# Altium schematic symbol library memory.SchLib: 8 symbols
Pins are listed as number, name and electrical type; pins without a type are passive.

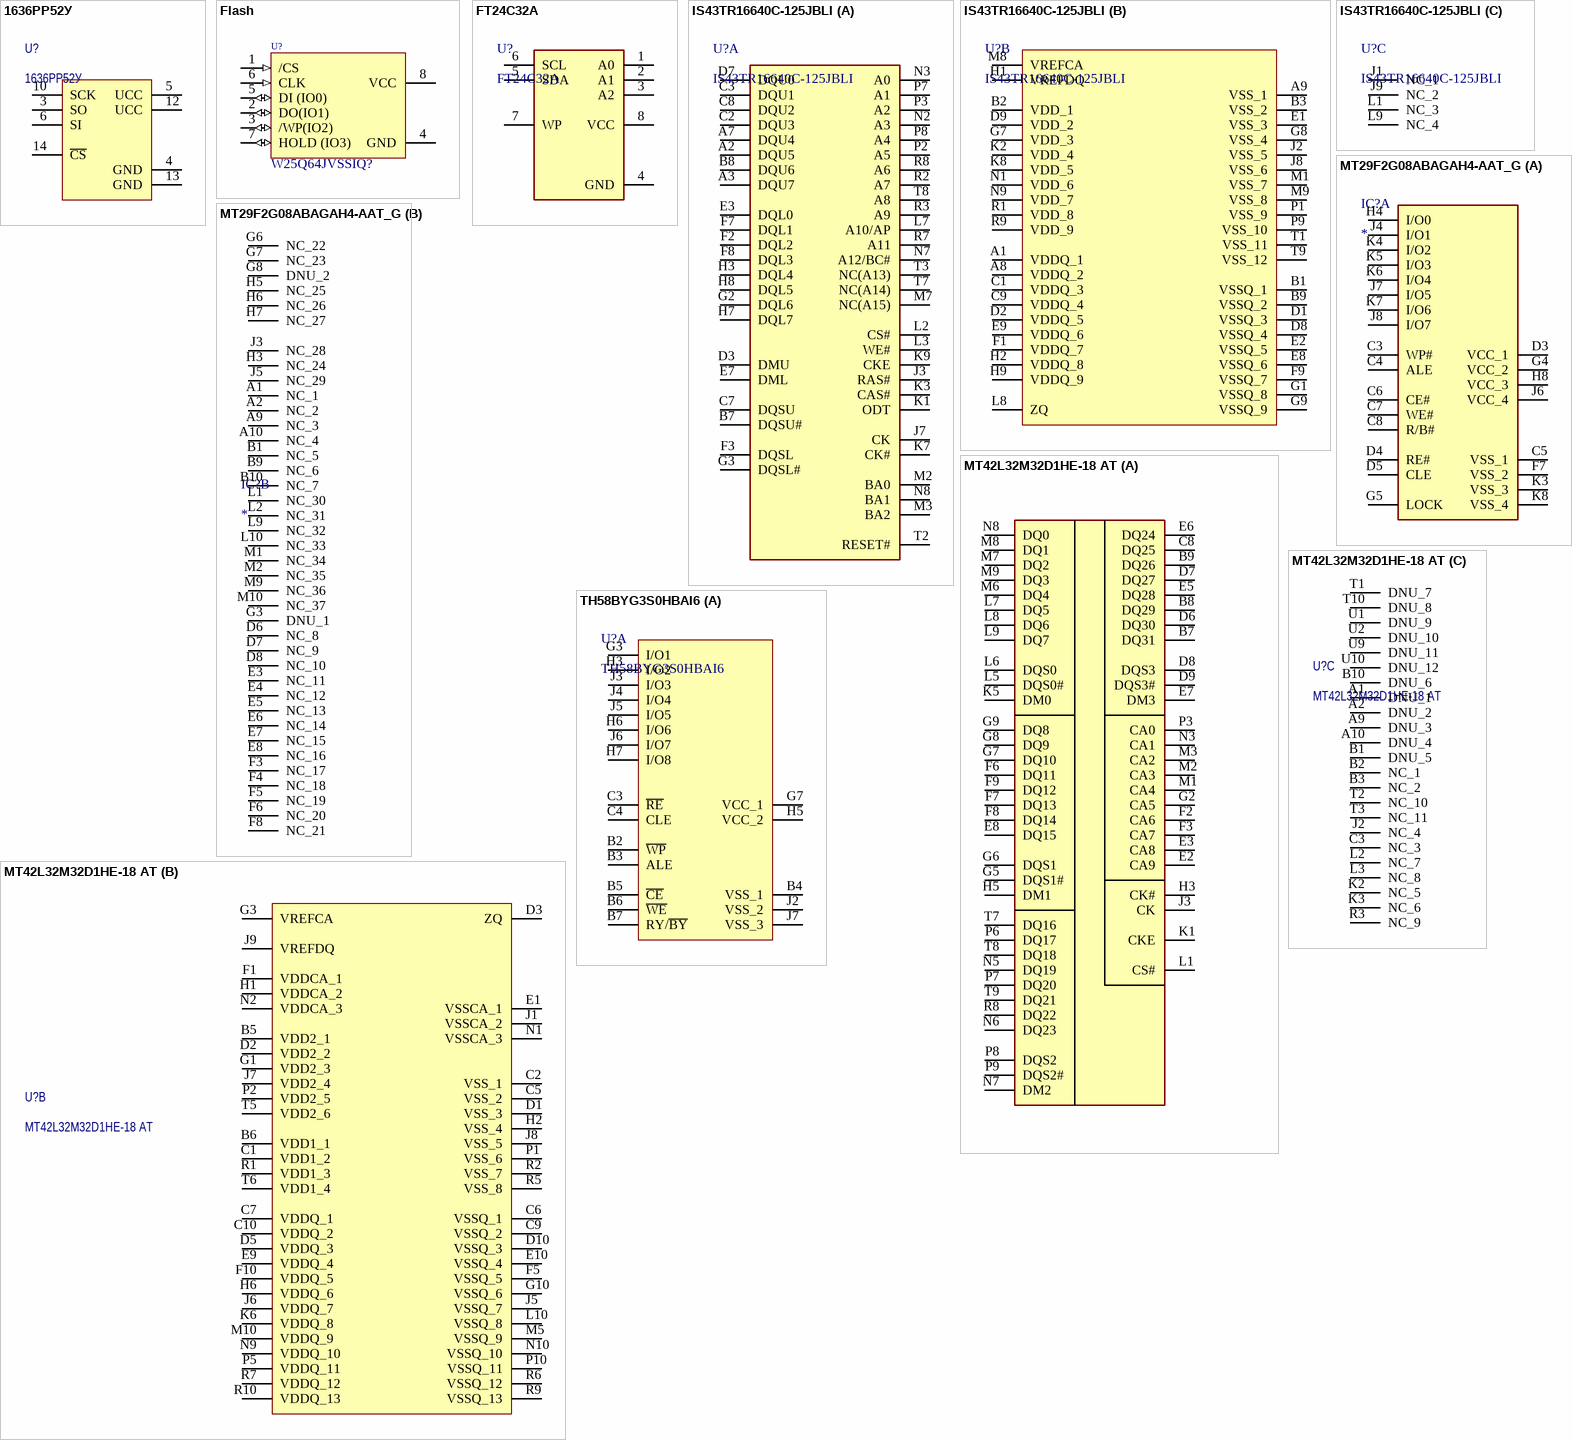
[diagram p0: symbols 1636РР52У to TH58BYG3S0HBAI6]

## 1636РР52У
designator U?
ROM
footprint 5119.16-A
pins: 3 SO, 4 GND, 5 UCC, 6 SI, 10 SCK, 12 UCC, 13 GND, 14 ~{CS}

## Flash
designator U?, comment W25Q64JVSSIQ?
footprint SO-8 (Small Outline; 8 Leads; Body Width 3.9 mm; Pitch 1.27 mm)
pins: 1 /CS (in), 2 DO(IO1) (io), 3 /WP(IO2) (io), 4 GND (power), 5 DI (IO0) (io), 6 CLK (in), 7 HOLD (IO3) (io), 8 VCC (power)

## FT24C32A
designator U?
EEPROM I2C
footprint TSSOP-8 (TSOP, 8-Leads, Body 3,1x4,5mm (max), Pitch 0,65mm, IPC Medium Density)
pins: 1 A0, 2 A1, 3 A2, 4 GND, 5 SDA, 6 SCL, 7 WP, 8 VCC

## IS43TR16640C-125JBLI
designator U?
DDR3 1G; Manufacturer_Name: Integrated Silicon Solution Inc.; Datasheet Link: https://componentsearchengine.com//IS43TR16640C-125JBLI.pdf; Height: 1.2mm; Mouser2 Part Number: 870-16640C-125JBLI; Mouser2 Price/Stock: https://www.mouser.com/Search/Refine.aspx?Keyword=870-16640C-125JBLI; Manufacturer_Part_Number: IS43TR16640C-125JBLI
footprint BGA96
part A pins: A2 DQU5, A3 DQU7, A7 DQU4, B7 DQSU#, B8 DQU6, C2 DQU3, C3 DQU1, C7 DQSU, C8 DQU2, D3 DMU, D7 DQU0, E3 DQL0, E7 DML, F2 DQL2, F3 DQSL, F7 DQL1, F8 DQL3, G2 DQL6, G3 DQSL#, H3 DQL4, H7 DQL7, H8 DQL5, J3 RAS#, J7 CK, K1 ODT, K3 CAS#, K7 CK#, K9 CKE, L2 CS#, L3 WE#, L7 A10/AP, M2 BA0, M3 BA2, M7 NC(A15), N2 A3, N3 A0, N7 A12/BC#, N8 BA1, P2 A5, P3 A2, P7 A1, P8 A4, R2 A7, R3 A9, R7 A11, R8 A6, T2 RESET#, T3 NC(A13), T7 NC(A14), T8 A8
part B pins: A1 VDDQ_1, A8 VDDQ_2, A9 VSS_1, B1 VSSQ_1, B2 VDD_1, B3 VSS_2, B9 VSSQ_2, C1 VDDQ_3, C9 VDDQ_4, D1 VSSQ_3, D2 VDDQ_5, D8 VSSQ_4, D9 VDD_2, E1 VSS_3, E2 VSSQ_5, E8 VSSQ_6, E9 VDDQ_6, F1 VDDQ_7, F9 VSSQ_7, G1 VSSQ_8, G7 VDD_3, G8 VSS_4, G9 VSSQ_9, H1 VREFDQ, H2 VDDQ_8, H9 VDDQ_9, J2 VSS_5, J8 VSS_6, K2 VDD_4, K8 VDD_5, L8 ZQ, M1 VSS_7, M8 VREFCA, M9 VSS_8, N1 VDD_6, N9 VDD_7, P1 VSS_9, P9 VSS_10, R1 VDD_8, R9 VDD_9, T1 VSS_11, T9 VSS_12
part C pins: J1 NC_1, J9 NC_2, L1 NC_3, L9 NC_4

## MT29F2G08ABAGAH4-AAT_G
designator IC?
Integrated Circuit; Manufacturer_Name: Micron; Manufacturer_Part_Number: MT29F2G08ABAGAH4-AAT:G; Datasheet Link: https://l.facebook.com/l.php?u=https%3A%2F%2Fcdn.fbsbx.com%2Fv%2Ft59.2708-21%2F97542784_573378673289097_3029815916536791040_n.pdf%2Fm79a_2gb_parallel_nand_auto.pdf%3F_nc_cat%3D100%26_nc_sid%3D0cab14%26_nc_eui2%3DAeFpWMN8JHKyS4KgTjB_Y6sTT3t34wKDd4pPe3fjAoN; Height: 1mm
footprint BGA63
part A pins: C3 WP#, C4 ALE, C5 VSS_1, C6 CE#, C7 WE#, C8 R/B#, D3 VCC_1, D4 RE#, D5 CLE, F7 VSS_2, G4 VCC_2, G5 LOCK, H4 I/O0, H8 VCC_3, J4 I/O1, J6 VCC_4, J7 I/O5, J8 I/O7, K3 VSS_3, K4 I/O2, K5 I/O3, K6 I/O4, K7 I/O6, K8 VSS_4
part B pins: A1 NC_1, A2 NC_2, A9 NC_3, A10 NC_4, B1 NC_5, B9 NC_6, B10 NC_7, D6 NC_8, D7 NC_9, D8 NC_10, E3 NC_11, E4 NC_12, E5 NC_13, E6 NC_14, E7 NC_15, E8 NC_16, F3 NC_17, F4 NC_18, F5 NC_19, F6 NC_20, F8 NC_21, G3 DNU_1, G6 NC_22, G7 NC_23, G8 DNU_2, H3 NC_24, H5 NC_25, H6 NC_26, H7 NC_27, J3 NC_28, J5 NC_29, L1 NC_30, L2 NC_31, L9 NC_32, L10 NC_33, M1 NC_34, M2 NC_35, M9 NC_36, M10 NC_37

## MT42L32M32D1HE-18 AT
designator U?
SDRAM
footprint BGA134
part A pins: B7 DQ31, B8 DQ29, B9 DQ26, C8 DQ25, D6 DQ30, D7 DQ27, D8 DQS3, D9 DQS3#, E2 CA9, E3 CA8, E5 DQ28, E6 DQ24, E7 DM3, E8 DQ15, F2 CA6, F3 CA7, F6 DQ11, F7 DQ13, F8 DQ14, F9 DQ12, G2 CA5, G5 DQS1#, G6 DQS1, G7 DQ10, G8 DQ9, G9 DQ8, H3 CK#, H5 DM1, J3 CK, K1 CKE, K5 DM0, L1 CS#, L5 DQS0#, L6 DQS0, L7 DQ5, L8 DQ6, L9 DQ7, M1 CA4, M2 CA3, M3 CA2, M6 DQ4, M7 DQ2, M8 DQ1, M9 DQ3, N3 CA1, N5 DQ19, N6 DQ23, N7 DM2, N8 DQ0, P3 CA0, P6 DQ17, P7 DQ20, P8 DQS2, P9 DQS2#, R8 DQ22, T7 DQ16, T8 DQ18, T9 DQ21
part B pins: B5 VDD2_1, B6 VDD1_1, C1 VDD1_2, C2 VSS_1, C5 VSS_2, C6 VSSQ_1, C7 VDDQ_1, C9 VSSQ_2, C10 VDDQ_2, D1 VSS_3, D2 VDD2_2, D3 ZQ, D5 VDDQ_3, D10 VSSQ_3, E1 VSSCA_1, E9 VDDQ_4, E10 VSSQ_4, F1 VDDCA_1, F5 VSSQ_5, F10 VDDQ_5, G1 VDD2_3, G3 VREFCA, G10 VSSQ_6, H1 VDDCA_2, H2 VSS_4, H6 VDDQ_6, J1 VSSCA_2, J5 VSSQ_7, J6 VDDQ_7, J7 VDD2_4, J8 VSS_5, J9 VREFDQ, K6 VDDQ_8, L10 VSSQ_8, M5 VSSQ_9, M10 VDDQ_9, N1 VSSCA_3, N2 VDDCA_3, N9 VDDQ_10, N10 VSSQ_10, P1 VSS_6, P2 VDD2_5, P5 VDDQ_11, P10 VSSQ_11, R1 VDD1_3, R2 VSS_7, R5 VSS_8, R6 VSSQ_12, R7 VDDQ_12, R9 VSSQ_13, R10 VDDQ_13, T5 VDD2_6, T6 VDD1_4
part C pins: A1 DNU_1, A2 DNU_2, A9 DNU_3, A10 DNU_4, B1 DNU_5, B2 NC_1, B3 NC_2, B10 DNU_6, C3 NC_3, J2 NC_4, K2 NC_5, K3 NC_6, L2 NC_7, L3 NC_8, R3 NC_9, T1 DNU_7, T2 NC_10, T3 NC_11, T10 DNU_8, U1 DNU_9, U2 DNU_10, U9 DNU_11, U10 DNU_12

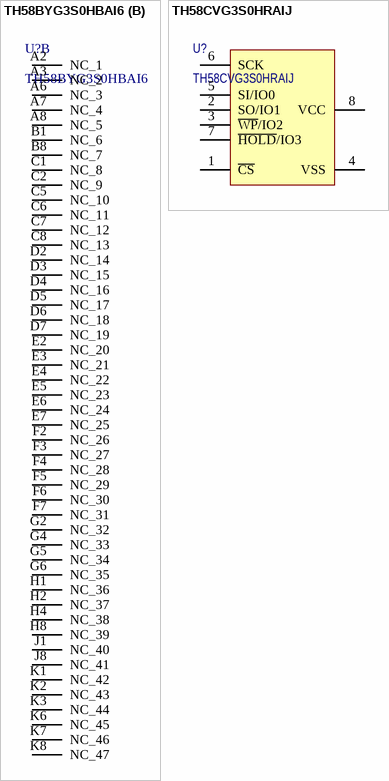
[diagram p1: symbols TH58BYG3S0HBAI6 to TH58CVG3S0HRAIJ]

## TH58BYG3S0HBAI6
designator U?
Integrated Circuit; Manufacturer_Name: Toshiba; Datasheet Link: https://ru.mouser.com/datasheet/2/1034/tosc_s_a0007398948_1-2295676.pdf; Height: 1mm; Manufacturer_Part_Number: TH58BYG3S0HBAI6; Mouser Part Number: 757-TH58BYG3S0HBAI6; Mouser Price/Stock: https://www.mouser.com/Search/Refine.aspx?Keyword=757-TH58BYG3S0HBAI6
footprint BGA67
part A pins: B2 ~{WP}, B3 ALE, B4 VSS_1, B5 ~{CE}, B6 ~{WE}, B7 RY/~{BY}, C3 ~{RE}, C4 CLE, G3 I/O1, G7 VCC_1, H3 I/O2, H5 VCC_2, H6 I/O6, H7 I/O8, J2 VSS_2, J3 I/O3, J4 I/O4, J5 I/O5, J6 I/O7, J7 VSS_3
part B pins: A2 NC_1, A3 NC_2, A6 NC_3, A7 NC_4, A8 NC_5, B1 NC_6, B8 NC_7, C1 NC_8, C2 NC_9, C5 NC_10, C6 NC_11, C7 NC_12, C8 NC_13, D2 NC_14, D3 NC_15, D4 NC_16, D5 NC_17, D6 NC_18, D7 NC_19, E2 NC_20, E3 NC_21, E4 NC_22, E5 NC_23, E6 NC_24, E7 NC_25, F2 NC_26, F3 NC_27, F4 NC_28, F5 NC_29, F6 NC_30, F7 NC_31, G2 NC_32, G4 NC_33, G5 NC_34, G6 NC_35, H1 NC_36, H2 NC_37, H4 NC_38, H8 NC_39, J1 NC_40, J8 NC_41, K1 NC_42, K2 NC_43, K3 NC_44, K6 NC_45, K7 NC_46, K8 NC_47

## TH58CVG3S0HRAIJ
designator U?
FLASH
footprint WSON-8
pins: 1 ~{CS}, 2 SO/IO1, 3 ~{WP}/IO2, 4 VSS, 5 SI/IO0, 6 SCK, 7 ~{HOLD}/IO3, 8 VCC